# EAGLE library part TPS63001DRCR (library Aircopter)
IC REG BUCK BST 3.3V 1.6A 10SON
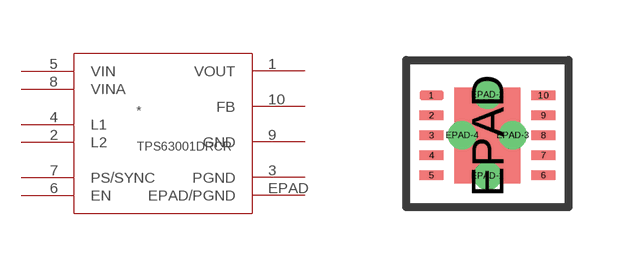
[diagram p0: symbol with the pads of VSON10; footprint VSON10]

Designator prefix *

## TPS63001DRCRTPS63001DRCR_VSON10 (COMPONENTLINK1DESCRIPTION: http://www.ti.com/lit/ds/symlink/tps63001.pdf; COMPONENTLINK1URL: http://www.ti.com/lit/ds/symlink/tps63001.pdf; COMPONENTLINK2DESCRIPTION: http://www.farnell.com/datasheets/1854797.pdf; COMPONENTLINK2URL: http://www.farnell.com/datasheets/1854797.pdf; COMPONENTLINK4DESCRIPTION: http://focus.ti.com/lit/ds/symlink/tps63001.pdf; COMPONENTLINK4URL: http://focus.ti.com/lit/ds/symlink/tps63001.pdf; COMPONENTLINK7DESCRIPTION: http://www.farnell.com/datasheets/2018926.pdf; COMPONENTLINK7URL: http://www.farnell.com/datasheets/2018926.pdf; COMPONENTLINK8DESCRIPTION: http://datasheet.iiic.cc/texas_instruments/TPS63001DRCR.pdf; COMPONENTLINK8URL: http://datasheet.iiic.cc/texas_instruments/TPS63001DRCR.pdf; COMPONENTLINK9DESCRIPTION: http://www.produktinfo.conrad.com/datenblaetter/1000000-1099999/001014938-da-01-en-IC_REG_BUCK_BST_TPS63001DRCR_VSON_10_TID.pdf; COMPONENTLINK9URL: http://www.produktinfo.conrad.com/datenblaetter/1000000-1099999/001014938-da-01-en-IC_REG_BUCK_BST_TPS63001DRCR_VSON_10_TID.pdf; CONTACT_PLATING: Gold; DESCRIPTION: IC REG BUCK BST 3.3V 1.6A 10SON; EFFICIENCY: 96%; LEAD_FREE: Lead Free; MANUFACTURER: Texas Instruments; MANUFACTURER_PART_NUMBER: TPS63001DRCR; MAX_INPUT_VOLTAGE: 5.5V; MAX_OPERATING_TEMPERATURE: 85�C; MAX_OUTPUT_CURRENT: 1.2A; MAX_OUTPUT_VOLTAGE: 3.3V; MIN_INPUT_VOLTAGE: 1.8V; MIN_OPERATING_TEMPERATURE: -40�C; MIN_OUTPUT_VOLTAGE: 3.3V; NOMINAL_OUTPUT_VOLTAGE: 3.3V; NUMBER_OF_OUTPUTS: 1; NUMBER_OF_PINS: 10; OPERATING_SUPPLY_VOLTAGE: 5.5V; OUTPUT_CURRENT: 1.2A; OUTPUT_TYPE: Fixed; OUTPUT_VOLTAGE: 3.3V; PACKAGE_QUANTITY: 1; PACKAGING: Tape and Reel; QUIESCENT_CURRENT: 30uA; RADIATION_HARDENING: No; REACH_SVHC: No SVHC; STOCK_1: 260; SUPPLIER_1: Digi-Key; SUPPLIER_PART_NUMBER_1: 296-19643-6-ND; SWITCHING_FREQUENCY: 1.5MHz; SYNCHRONOUS_RECTIFIER: Yes; TOPOLOGY: Buck-Boost; WEIGHT: 0.000921oz)  [VSON10]
1  VOUT  pas
2  L2  pas
3  PGND  pas
4  L1  pas
5  VIN  pas
6  EN
7  PS/SYNC  pas
8  VINA  pas
9  GND  pas
10  FB  pas
EPAD  EPAD/PGND

## Footprint VSON10 (pad centres in mm)
smd 0.6 x 0.24: 1 -1.4,1; 2 -1.4,0.5; 3 -1.4,0; 4 -1.4,-0.5; 5 -1.4,-1; 6 1.4,-1; 7 1.4,-0.5; 8 1.4,0; 9 1.4,0.5; 10 1.4,1
smd 1.65 x 2.4: EPAD -0.003,-0.008
drill 0.2 pad 0.254: EPAD-1 0,-1.016; EPAD-2 0,1.016; EPAD-3 0.635,0; EPAD-4 -0.635,0